# Altium integrated library Linear Technology PMIC-Switching Reg LTC1174-LTC3901.IntLib: 2647 symbols (part 222 of 310)
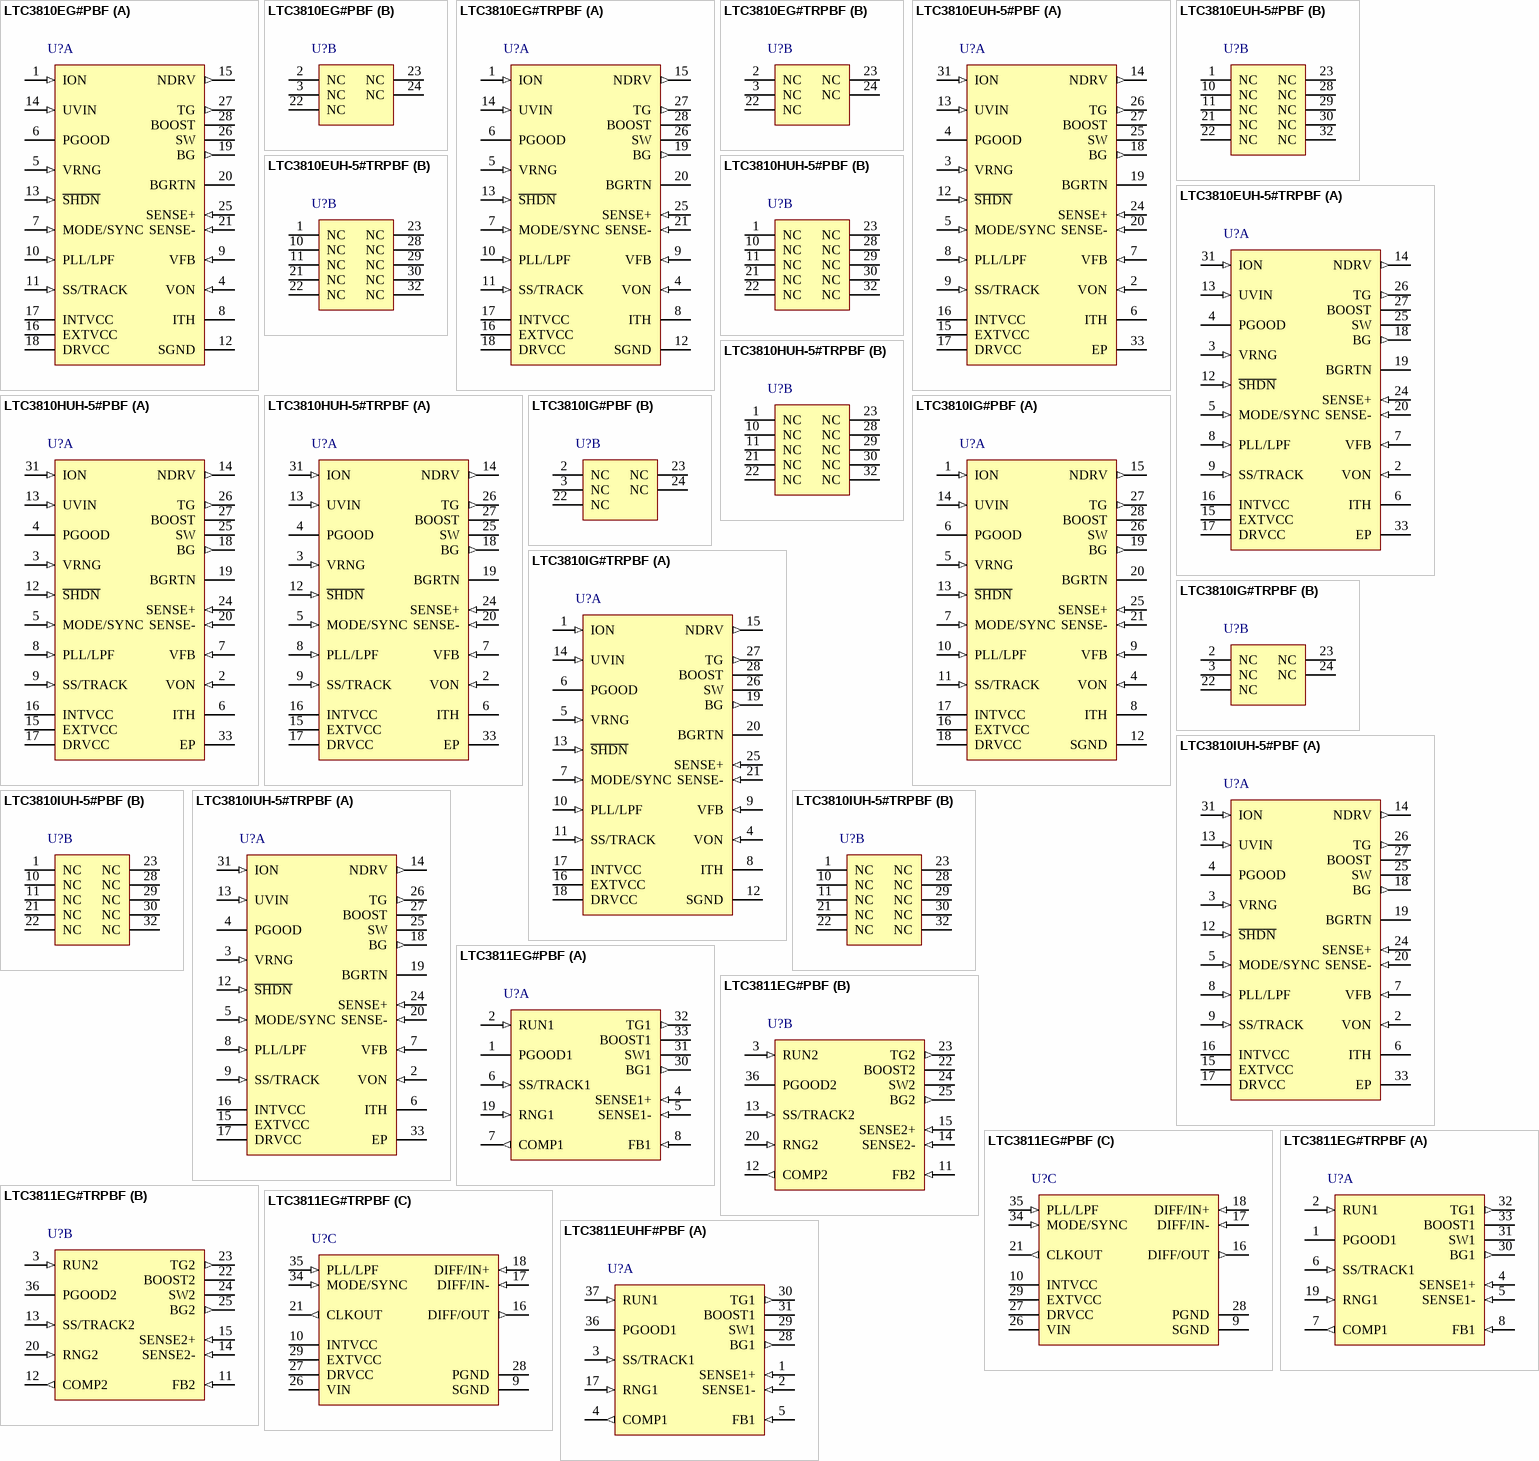
[diagram p245: symbols LTC3810EG#PBF to LTC3811EUHF#PBF]

## LTC3810EG#TRPBF
designator U?
Current Mode Synchronous Switching Regulator Controller, 28-pin SOP (G-28), -40 to 125 degC, Pb-Free, Tape and Reel; Manufacturer: Linear Technology; PartNumber: LTC3810EG#TRPBF; Number of Outputs: 1; PackageReference: G-28; PackageDescription: 28-Pin Plastic SSOP, Body 10.2 x 5.3 mm, Pitch 0.65 mm; Supplier 1: Digi-Key; Supplier Part Number 1: LTC3810EG#TRPBF-ND; RoHS: TRUE
footprint LT-G-28_N (SOP, 28-Leads, Body 10.2x5.3mm, Pitch 0.65mm, IPC Medium Density)
footprint LT-G-28_L (SOP, 28-Leads, Body 10.2x5.3mm, Pitch 0.65mm, IPC High Density)
footprint LT-G-28_M (SOP, 28-Leads, Body 10.2x5.3mm, Pitch 0.65mm, IPC Low Density)
part A pins: 1 ION (in) "On-Time Current Input. Tie a resistor from VIN to this pin to set the one-shot timer current and thereby set the switching frequency.", 4 VON (in) "On-Time Voltage Input. Voltage trip point for the on-time comparator. Tying this pin to the output voltage or an external resistive divider from the output makes the on-time proportional to VOUT. The comparator defaults to 0.(See Datasheet)", 5 VRNG (in) "Sense Voltage Limit Set. The voltage at this pin sets the nominal sense voltage at maximum output current and can be set from 0.5V to 2V by a resistive divider from INTVCC. The nominal sense voltage defaults to 95mV when (See Datasheet)", 6 PGOOD (oc) "Power Good Output. Open-drain logic output that is pulled to ground when the output voltage is not between +/-10% of the regulation point. The output voltage must be out of regulation for at least 120us before the power good (See Datasheet)", 7 MODE/SYNC (in) "Pulse Skip Mode Enable/Sync Pin. This multifunction pin provides pulse skip mode enable/ disable control and an external clock input to the phase detector. Pulling this pin below 0.8V or to an external logic-level (See Datasheet)", 8 ITH "Error Amplifier Compensation Point and Current Control Threshold. The current comparator threshold increases with control voltage. The voltage ranges from 0V to 2.6V with 1.2V corresponding to zero sense voltage (zero (See Datasheet)", 9 VFB (in) "Feedback Input. Connect VFB through a resistor divider network to VOUT to set the output voltage.", 10 PLL/LPF (in) "The phase-locked loop’s lowpass filter is tied to this pin. The voltage at this pin defaults to 1.2V when the IC is not synchronized with an external clock at the MODE/SYNC pin.", 11 SS/TRACK (in) "Soft-Start/Tracking Input. For softstart, a capacitor to ground at this pin sets the ramp rate of the output voltage (approximately 0.6s/uF). For coincident or ratiometric tracking, connect this pin to a resistive divider (See Datasheet)", 12 SGND (power) "Signal Ground. All small-signal components should connect to this ground and eventually connect to PGND at one point.", 13 ~{SHDN} (in) "Shutdown Pin. Pulling this pin below 1.5V will shut down the LTC3810, turn off both of the external MOSFET switches and reduce the quiescent supply current to 240uA.", 14 UVIN (in) "UVLO Input. This pin is input to the internal UVLO and is compared to an internal 0.8V reference. An external resistor divider is connected to this pin and the input supply to program the undervoltage lockout voltage. When (See Datasheet)", 15 NDRV (out) "Drive Output for External Pass Device of the Linear Regulator for INTVCC. Connect to the gate of an external NMOS pass device and a pull-up resistor to the input voltage VIN.", 16 EXTVCC (power) "External Driver Supply Voltage. When this voltage exceeds 6.7V, an internal switch connects this pin to INTVCC through an LDO and turns off the external MOSFET connected to NDRV, so that controller and gate drive are drawn (See Datasheet)", 17 INTVCC (power) "Main Supply Pin. All internal circuits except the output drivers are powered from this pin. INTVCC should be bypassed to ground (Pin 10) with at least a 0.1uF capacitor in close proximity to the LTC3810.", 18 DRVCC (power) "Driver Supply Pin. DRVCC supplies power to the BG output driver. This pin is normally connected to INTVCC. DRVCC should be bypassed to BGRTN (Pin 20) with a low ESR (X5R or better) 1uF capacitor in close proximity to the (See Datasheet)", 19 BG (out) "Bottom Gate Drive. The BG pin drives the gate of the bottom N-channel synchronous switch MOSFET. This pin swings from BGRTN to DRVCC.", 20 BGRTN "Bottom Gate Return. This pin connects to the source of the pull-down MOSFET in the BG driver and is normally connected to ground. Connecting a negative supply to this pin allows the synchronous MOSFET ’s gate to be pulle(See Datasheet)", 21 SENSE- (in) "Current Sense Comparator Input. The (+) input to the current comparator is normally connected to SW unless using a sense resistor. The (-) input is used to accurately kelvin sense the bottom side of the sense resistor or (See Datasheet)", 25 SENSE+ (in) "Current Sense Comparator Input. The (+) input to the current comparator is normally connected to SW unless using a sense resistor. The (-) input is used to accurately kelvin sense the bottom side of the sense resistor or (See Datasheet)", 26 SW "Switch Node Connection to Inductor and Bootstrap Capacitor. Voltage swing at this pin is from a Schottky diode (external) voltage drop below ground to VIN.", 27 TG (out) "Top Gate Drive. The TG pin drives the gate of the top N-channel synchronous switch MOSFET. The TG driver draws power from the BOOST pin and returns to the SW pin, providing true floating drive to the top MOSFET.", 28 BOOST "Top Gate Driver Supply. The BOOST pin supplies power to the floating TG driver. BOOST should be bypassed to SW with a low ESR (X5R or better) 0.1uF capacitor. An additional fast recovery Schottky diode from DRVCC to the (See Datasheet)"
part B pins: 2 NC, 3 NC, 22 NC, 23 NC, 24 NC

## LTC3810EUH-5#PBF
designator U?
Current Mode Synchronous Switching Regulator Controller, 32-pin QFN (UH-32), -40 to 125 degC, Pb-Free; Manufacturer: Linear Technology; PartNumber: LTC3810EUH-5#PBF; Number of Outputs: 1; PackageReference: UH-32; PackageDescription: 32-Pin Plastic QFN, Body 5 x 5 mm, Pitch 0.5 mm; Supplier 1: Digi-Key; Supplier Part Number 1: LTC3810EUH-5#PBF-ND; RoHS: TRUE; Code_JEDEC: MO-220
footprint LT-UH-32_N (QFN, 32-Leads, Body 5.1x5.1mm, Pitch 0.5mm, Thermal Pad 3.45X3.45mm, IPC Medium Density)
footprint LT-UH-32_L (QFN, 32-Leads, Body 5.1x5.1mm, Pitch 0.5mm, Thermal Pad 3.45X3.45mm, IPC High Density)
footprint LT-UH-32_M (QFN, 32-Leads, Body 5.1x5.1mm, Pitch 0.5mm, Thermal Pad 3.45X3.45mm, IPC Low Density)
part A pins: 2 VON (in) "On-Time Voltage Input. Voltage trip point for the on-time comparator. Tying this pin to the output voltage or to an external resistive divider from the output makes the on-time proportional to VOUT. The comparator defaults (See Datasheet)", 3 VRNG (in) "Sense Voltage Limit Set. The voltage at this pin sets the nominal sense voltage at maximum output current and can be set from 0.5V to 2V by a resistive divider from INTVCC. The nominal sense voltage defaults to 95mV when (See Datasheet)", 4 PGOOD (oc) "Power Good Output. Open-drain logic output that is pulled to ground when the output voltage is not between +/-10% of the regulation point. The output voltage must be out of regulation for at least 120us before the power good (See Datasheet)", 5 MODE/SYNC (in) "Pulse Skip Mode Enable/Sync Pin. This multifunction pin provides pulse skip mode enable/ disable control and an external clock input to the phase detector. Pulling this pin below 0.8V or to an external logic-level (See Datasheet)", 6 ITH "Error Amplifier Compensation Point and Current Control Threshold. The current comparator threshold increases with this control voltage. The voltage ranges from 0V to 2.6V with 1.2V corresponding to zero sense voltage (zero (See Datasheet)", 7 VFB (in) "Feedback Input. Connect VFB through a resistor divider network to VOUT to set the output voltage.", 8 PLL/LPF (in) "The phase-locked loop’s lowpass filter is tied to this pin. The voltage at this pin defaults to 1.2V when the IC is not synchronized with an external clock at the MODE/SYNC pin.", 9 SS/TRACK (in) "Soft-Start/Tracking Input. For soft-start, a capacitor to ground at this pin sets the ramp rate of the output voltage (approximately 0.6s/uF). For coincident or ratiometric tracking, connect this pin to a resistive divider (See Datasheet)", 12 ~{SHDN} (in) "Shutdown Pin. Pulling this pin below 1.5V will shut down the LTC3810-5, turn off both of the external MOSFET switches and reduce the quiescent supply current to 240uA.", 13 UVIN (in) "UVLO Input. This pin is input to the internal UVLO and is compared to an internal 0.8V reference. An external resistor divider is connected to this pin and the input supply to program the undervoltage lockout voltage. When (See Datasheet)", 14 NDRV (out) "Drive Output for External Pass Device of the Linear Regulator for INTVCC. Connect to the gate of an external NMOS pass device and a pull-up resistor to the input voltage VIN.", 15 EXTVCC (power) "External Driver Supply Voltage. When this voltage exceeds 4.7V, an internal switch connects this pin to INTVCC through an LDO and turns off the exter nal MOSFET connected to NDRV, so that controller and gate drive are drawn (See Datasheet)", 16 INTVCC (power) "Main Supply Pin. All internal circuits except the output drivers are powered from this pin. INTVCC should be bypassed to ground (Pin 10) with at least a 0.1uF capacitor in close proximity to the LTC3810-5.", 17 DRVCC (power) "Driver Supply Pin. DRVCC supplies power to the BG output driver. This pin is normally connected to INTVCC. DRVCC should be bypassed to BGRTN (Pin 20) with a low ESR (X5R or better) 1uF-10uF capacitor in close proximity to (See Datasheet)", 18 BG (out) "Bottom Gate Drive. The BG pin drives the gate of the bottom N-channel synchronous switch MOSFET. This pin swings from BGRTN to DRVCC", 19 BGRTN "Bottom Gate Return. This pin connects to the source of the pulldown MOSFET in the BG driver and is normally connected to ground. Connecting a negative supply to this pin allows the synchronous MOSFET’s gate to be pulle(See Datasheet)", 20 SENSE- (in) "Current Sense Comparator Input. The (+) input to the current comparator is normally connected to SW unless using a sense resistor. The (-) input is used to accurately kelvin sense the bottom side of the sense resistor or (See Datasheet)", 24 SENSE+ (in) "Current Sense Comparator Input. The (+) input to the current comparator is normally connected to SW unless using a sense resistor. The (-) input is used to accurately kelvin sense the bottom side of the sense resistor or (See Datasheet)", 25 SW "Switch Node Connection to Inductor and Bootstrap Capacitor. The voltage swing at this pin is -0.7V (a Schottky diode (external) voltage drop) to VIN.", 26 TG (out) "Top Gate Drive. The TG pin drives the gate of the top N-channel synchronous switch MOSFET. The TG driver draws power from the BOOST pin and returns to the SW pin, providing true floating drive to the top MOSFET.", 27 BOOST "Top Gate Driver Supply. The BOOST pin supplies power to the floating TG driver. BOOST should be bypassed to SW with a low ESR (X5R or better) 0.1uF capacitor. An additional fast recovery Schottky diode from DRVCC to the (See Datasheet)", 31 ION (in) "On-Time Current Input. Tie a resistor from VIN to this pin to set the one-shot timer current and thereby set the switching frequency.", 33 EP (power) "Signal Ground. All smallsignal components should connect to this ground and eventually connect to PGND at one point."
part B pins: 1 NC, 10 NC, 11 NC, 21 NC, 22 NC, 23 NC, 28 NC, 29 NC, 30 NC, 32 NC

## LTC3810EUH-5#TRPBF
designator U?
Current Mode Synchronous Switching Regulator Controller, 32-pin QFN (UH-32), -40 to 125 degC, Pb-Free, Tape and Reel; Manufacturer: Linear Technology; PartNumber: LTC3810EUH-5#TRPBF; Number of Outputs: 1; PackageReference: UH-32; PackageDescription: 32-Pin Plastic QFN, Body 5 x 5 mm, Pitch 0.5 mm; Supplier 1: Digi-Key; Supplier Part Number 1: LTC3810EUH-5#TRPBF-ND; RoHS: TRUE; Code_JEDEC: MO-220
footprint LT-UH-32_N (QFN, 32-Leads, Body 5.1x5.1mm, Pitch 0.5mm, Thermal Pad 3.45X3.45mm, IPC Medium Density)
footprint LT-UH-32_L (QFN, 32-Leads, Body 5.1x5.1mm, Pitch 0.5mm, Thermal Pad 3.45X3.45mm, IPC High Density)
footprint LT-UH-32_M (QFN, 32-Leads, Body 5.1x5.1mm, Pitch 0.5mm, Thermal Pad 3.45X3.45mm, IPC Low Density)
part A pins: 2 VON (in) "On-Time Voltage Input. Voltage trip point for the on-time comparator. Tying this pin to the output voltage or to an external resistive divider from the output makes the on-time proportional to VOUT. The comparator defaults (See Datasheet)", 3 VRNG (in) "Sense Voltage Limit Set. The voltage at this pin sets the nominal sense voltage at maximum output current and can be set from 0.5V to 2V by a resistive divider from INTVCC. The nominal sense voltage defaults to 95mV when (See Datasheet)", 4 PGOOD (oc) "Power Good Output. Open-drain logic output that is pulled to ground when the output voltage is not between +/-10% of the regulation point. The output voltage must be out of regulation for at least 120us before the power good (See Datasheet)", 5 MODE/SYNC (in) "Pulse Skip Mode Enable/Sync Pin. This multifunction pin provides pulse skip mode enable/ disable control and an external clock input to the phase detector. Pulling this pin below 0.8V or to an external logic-level (See Datasheet)", 6 ITH "Error Amplifier Compensation Point and Current Control Threshold. The current comparator threshold increases with this control voltage. The voltage ranges from 0V to 2.6V with 1.2V corresponding to zero sense voltage (zero (See Datasheet)", 7 VFB (in) "Feedback Input. Connect VFB through a resistor divider network to VOUT to set the output voltage.", 8 PLL/LPF (in) "The phase-locked loop’s lowpass filter is tied to this pin. The voltage at this pin defaults to 1.2V when the IC is not synchronized with an external clock at the MODE/SYNC pin.", 9 SS/TRACK (in) "Soft-Start/Tracking Input. For soft-start, a capacitor to ground at this pin sets the ramp rate of the output voltage (approximately 0.6s/uF). For coincident or ratiometric tracking, connect this pin to a resistive divider (See Datasheet)", 12 ~{SHDN} (in) "Shutdown Pin. Pulling this pin below 1.5V will shut down the LTC3810-5, turn off both of the external MOSFET switches and reduce the quiescent supply current to 240uA.", 13 UVIN (in) "UVLO Input. This pin is input to the internal UVLO and is compared to an internal 0.8V reference. An external resistor divider is connected to this pin and the input supply to program the undervoltage lockout voltage. When (See Datasheet)", 14 NDRV (out) "Drive Output for External Pass Device of the Linear Regulator for INTVCC. Connect to the gate of an external NMOS pass device and a pull-up resistor to the input voltage VIN.", 15 EXTVCC (power) "External Driver Supply Voltage. When this voltage exceeds 4.7V, an internal switch connects this pin to INTVCC through an LDO and turns off the exter nal MOSFET connected to NDRV, so that controller and gate drive are drawn (See Datasheet)", 16 INTVCC (power) "Main Supply Pin. All internal circuits except the output drivers are powered from this pin. INTVCC should be bypassed to ground (Pin 10) with at least a 0.1uF capacitor in close proximity to the LTC3810-5.", 17 DRVCC (power) "Driver Supply Pin. DRVCC supplies power to the BG output driver. This pin is normally connected to INTVCC. DRVCC should be bypassed to BGRTN (Pin 20) with a low ESR (X5R or better) 1uF-10uF capacitor in close proximity to (See Datasheet)", 18 BG (out) "Bottom Gate Drive. The BG pin drives the gate of the bottom N-channel synchronous switch MOSFET. This pin swings from BGRTN to DRVCC", 19 BGRTN "Bottom Gate Return. This pin connects to the source of the pulldown MOSFET in the BG driver and is normally connected to ground. Connecting a negative supply to this pin allows the synchronous MOSFET’s gate to be pulle(See Datasheet)", 20 SENSE- (in) "Current Sense Comparator Input. The (+) input to the current comparator is normally connected to SW unless using a sense resistor. The (-) input is used to accurately kelvin sense the bottom side of the sense resistor or (See Datasheet)", 24 SENSE+ (in) "Current Sense Comparator Input. The (+) input to the current comparator is normally connected to SW unless using a sense resistor. The (-) input is used to accurately kelvin sense the bottom side of the sense resistor or (See Datasheet)", 25 SW "Switch Node Connection to Inductor and Bootstrap Capacitor. The voltage swing at this pin is -0.7V (a Schottky diode (external) voltage drop) to VIN.", 26 TG (out) "Top Gate Drive. The TG pin drives the gate of the top N-channel synchronous switch MOSFET. The TG driver draws power from the BOOST pin and returns to the SW pin, providing true floating drive to the top MOSFET.", 27 BOOST "Top Gate Driver Supply. The BOOST pin supplies power to the floating TG driver. BOOST should be bypassed to SW with a low ESR (X5R or better) 0.1uF capacitor. An additional fast recovery Schottky diode from DRVCC to the (See Datasheet)", 31 ION (in) "On-Time Current Input. Tie a resistor from VIN to this pin to set the one-shot timer current and thereby set the switching frequency.", 33 EP (power) "Signal Ground. All smallsignal components should connect to this ground and eventually connect to PGND at one point."
part B pins: 1 NC, 10 NC, 11 NC, 21 NC, 22 NC, 23 NC, 28 NC, 29 NC, 30 NC, 32 NC

## LTC3810HUH-5#PBF
designator U?
Current Mode Synchronous Switching Regulator Controller, 32-pin QFN (UH-32), -40 to 150 degC, Pb-Free; Manufacturer: Linear Technology; PartNumber: LTC3810HUH-5#PBF; Number of Outputs: 1; PackageReference: UH-32; PackageDescription: 32-Pin Plastic QFN, Body 5 x 5 mm, Pitch 0.5 mm; Supplier 1: Digi-Key; Supplier Part Number 1: LTC3810HUH-5#PBF-ND; RoHS: TRUE; Code_JEDEC: MO-220
footprint LT-UH-32_N (QFN, 32-Leads, Body 5.1x5.1mm, Pitch 0.5mm, Thermal Pad 3.45X3.45mm, IPC Medium Density)
footprint LT-UH-32_L (QFN, 32-Leads, Body 5.1x5.1mm, Pitch 0.5mm, Thermal Pad 3.45X3.45mm, IPC High Density)
footprint LT-UH-32_M (QFN, 32-Leads, Body 5.1x5.1mm, Pitch 0.5mm, Thermal Pad 3.45X3.45mm, IPC Low Density)
part A pins: 2 VON (in) "On-Time Voltage Input. Voltage trip point for the on-time comparator. Tying this pin to the output voltage or to an external resistive divider from the output makes the on-time proportional to VOUT. The comparator defaults (See Datasheet)", 3 VRNG (in) "Sense Voltage Limit Set. The voltage at this pin sets the nominal sense voltage at maximum output current and can be set from 0.5V to 2V by a resistive divider from INTVCC. The nominal sense voltage defaults to 95mV when (See Datasheet)", 4 PGOOD (oc) "Power Good Output. Open-drain logic output that is pulled to ground when the output voltage is not between +/-10% of the regulation point. The output voltage must be out of regulation for at least 120us before the power good (See Datasheet)", 5 MODE/SYNC (in) "Pulse Skip Mode Enable/Sync Pin. This multifunction pin provides pulse skip mode enable/ disable control and an external clock input to the phase detector. Pulling this pin below 0.8V or to an external logic-level (See Datasheet)", 6 ITH "Error Amplifier Compensation Point and Current Control Threshold. The current comparator threshold increases with this control voltage. The voltage ranges from 0V to 2.6V with 1.2V corresponding to zero sense voltage (zero (See Datasheet)", 7 VFB (in) "Feedback Input. Connect VFB through a resistor divider network to VOUT to set the output voltage.", 8 PLL/LPF (in) "The phase-locked loop’s lowpass filter is tied to this pin. The voltage at this pin defaults to 1.2V when the IC is not synchronized with an external clock at the MODE/SYNC pin.", 9 SS/TRACK (in) "Soft-Start/Tracking Input. For soft-start, a capacitor to ground at this pin sets the ramp rate of the output voltage (approximately 0.6s/uF). For coincident or ratiometric tracking, connect this pin to a resistive divider (See Datasheet)", 12 ~{SHDN} (in) "Shutdown Pin. Pulling this pin below 1.5V will shut down the LTC3810-5, turn off both of the external MOSFET switches and reduce the quiescent supply current to 240uA.", 13 UVIN (in) "UVLO Input. This pin is input to the internal UVLO and is compared to an internal 0.8V reference. An external resistor divider is connected to this pin and the input supply to program the undervoltage lockout voltage. When (See Datasheet)", 14 NDRV (out) "Drive Output for External Pass Device of the Linear Regulator for INTVCC. Connect to the gate of an external NMOS pass device and a pull-up resistor to the input voltage VIN.", 15 EXTVCC (power) "External Driver Supply Voltage. When this voltage exceeds 4.7V, an internal switch connects this pin to INTVCC through an LDO and turns off the exter nal MOSFET connected to NDRV, so that controller and gate drive are drawn (See Datasheet)", 16 INTVCC (power) "Main Supply Pin. All internal circuits except the output drivers are powered from this pin. INTVCC should be bypassed to ground (Pin 10) with at least a 0.1uF capacitor in close proximity to the LTC3810-5.", 17 DRVCC (power) "Driver Supply Pin. DRVCC supplies power to the BG output driver. This pin is normally connected to INTVCC. DRVCC should be bypassed to BGRTN (Pin 20) with a low ESR (X5R or better) 1uF-10uF capacitor in close proximity to (See Datasheet)", 18 BG (out) "Bottom Gate Drive. The BG pin drives the gate of the bottom N-channel synchronous switch MOSFET. This pin swings from BGRTN to DRVCC", 19 BGRTN "Bottom Gate Return. This pin connects to the source of the pulldown MOSFET in the BG driver and is normally connected to ground. Connecting a negative supply to this pin allows the synchronous MOSFET’s gate to be pulle(See Datasheet)", 20 SENSE- (in) "Current Sense Comparator Input. The (+) input to the current comparator is normally connected to SW unless using a sense resistor. The (-) input is used to accurately kelvin sense the bottom side of the sense resistor or (See Datasheet)", 24 SENSE+ (in) "Current Sense Comparator Input. The (+) input to the current comparator is normally connected to SW unless using a sense resistor. The (-) input is used to accurately kelvin sense the bottom side of the sense resistor or (See Datasheet)", 25 SW "Switch Node Connection to Inductor and Bootstrap Capacitor. The voltage swing at this pin is -0.7V (a Schottky diode (external) voltage drop) to VIN.", 26 TG (out) "Top Gate Drive. The TG pin drives the gate of the top N-channel synchronous switch MOSFET. The TG driver draws power from the BOOST pin and returns to the SW pin, providing true floating drive to the top MOSFET.", 27 BOOST "Top Gate Driver Supply. The BOOST pin supplies power to the floating TG driver. BOOST should be bypassed to SW with a low ESR (X5R or better) 0.1uF capacitor. An additional fast recovery Schottky diode from DRVCC to the (See Datasheet)", 31 ION (in) "On-Time Current Input. Tie a resistor from VIN to this pin to set the one-shot timer current and thereby set the switching frequency.", 33 EP (power) "Signal Ground. All smallsignal components should connect to this ground and eventually connect to PGND at one point."
part B pins: 1 NC, 10 NC, 11 NC, 21 NC, 22 NC, 23 NC, 28 NC, 29 NC, 30 NC, 32 NC

## LTC3810HUH-5#TRPBF
designator U?
Current Mode Synchronous Switching Regulator Controller, 32-pin QFN (UH-32), -40 to 150 degC, Pb-Free, Tape and Reel; Manufacturer: Linear Technology; PartNumber: LTC3810HUH-5#TRPBF; Number of Outputs: 1; PackageReference: UH-32; PackageDescription: 32-Pin Plastic QFN, Body 5 x 5 mm, Pitch 0.5 mm; Supplier 1: Digi-Key; Supplier Part Number 1: LTC3810HUH-5#TRPBF-ND; RoHS: TRUE; Code_JEDEC: MO-220
footprint LT-UH-32_N (QFN, 32-Leads, Body 5.1x5.1mm, Pitch 0.5mm, Thermal Pad 3.45X3.45mm, IPC Medium Density)
footprint LT-UH-32_L (QFN, 32-Leads, Body 5.1x5.1mm, Pitch 0.5mm, Thermal Pad 3.45X3.45mm, IPC High Density)
footprint LT-UH-32_M (QFN, 32-Leads, Body 5.1x5.1mm, Pitch 0.5mm, Thermal Pad 3.45X3.45mm, IPC Low Density)
part A pins: 2 VON (in) "On-Time Voltage Input. Voltage trip point for the on-time comparator. Tying this pin to the output voltage or to an external resistive divider from the output makes the on-time proportional to VOUT. The comparator defaults (See Datasheet)", 3 VRNG (in) "Sense Voltage Limit Set. The voltage at this pin sets the nominal sense voltage at maximum output current and can be set from 0.5V to 2V by a resistive divider from INTVCC. The nominal sense voltage defaults to 95mV when (See Datasheet)", 4 PGOOD (oc) "Power Good Output. Open-drain logic output that is pulled to ground when the output voltage is not between +/-10% of the regulation point. The output voltage must be out of regulation for at least 120us before the power good (See Datasheet)", 5 MODE/SYNC (in) "Pulse Skip Mode Enable/Sync Pin. This multifunction pin provides pulse skip mode enable/ disable control and an external clock input to the phase detector. Pulling this pin below 0.8V or to an external logic-level (See Datasheet)", 6 ITH "Error Amplifier Compensation Point and Current Control Threshold. The current comparator threshold increases with this control voltage. The voltage ranges from 0V to 2.6V with 1.2V corresponding to zero sense voltage (zero (See Datasheet)", 7 VFB (in) "Feedback Input. Connect VFB through a resistor divider network to VOUT to set the output voltage.", 8 PLL/LPF (in) "The phase-locked loop’s lowpass filter is tied to this pin. The voltage at this pin defaults to 1.2V when the IC is not synchronized with an external clock at the MODE/SYNC pin.", 9 SS/TRACK (in) "Soft-Start/Tracking Input. For soft-start, a capacitor to ground at this pin sets the ramp rate of the output voltage (approximately 0.6s/uF). For coincident or ratiometric tracking, connect this pin to a resistive divider (See Datasheet)", 12 ~{SHDN} (in) "Shutdown Pin. Pulling this pin below 1.5V will shut down the LTC3810-5, turn off both of the external MOSFET switches and reduce the quiescent supply current to 240uA.", 13 UVIN (in) "UVLO Input. This pin is input to the internal UVLO and is compared to an internal 0.8V reference. An external resistor divider is connected to this pin and the input supply to program the undervoltage lockout voltage. When (See Datasheet)", 14 NDRV (out) "Drive Output for External Pass Device of the Linear Regulator for INTVCC. Connect to the gate of an external NMOS pass device and a pull-up resistor to the input voltage VIN.", 15 EXTVCC (power) "External Driver Supply Voltage. When this voltage exceeds 4.7V, an internal switch connects this pin to INTVCC through an LDO and turns off the exter nal MOSFET connected to NDRV, so that controller and gate drive are drawn (See Datasheet)", 16 INTVCC (power) "Main Supply Pin. All internal circuits except the output drivers are powered from this pin. INTVCC should be bypassed to ground (Pin 10) with at least a 0.1uF capacitor in close proximity to the LTC3810-5.", 17 DRVCC (power) "Driver Supply Pin. DRVCC supplies power to the BG output driver. This pin is normally connected to INTVCC. DRVCC should be bypassed to BGRTN (Pin 20) with a low ESR (X5R or better) 1uF-10uF capacitor in close proximity to (See Datasheet)", 18 BG (out) "Bottom Gate Drive. The BG pin drives the gate of the bottom N-channel synchronous switch MOSFET. This pin swings from BGRTN to DRVCC", 19 BGRTN "Bottom Gate Return. This pin connects to the source of the pulldown MOSFET in the BG driver and is normally connected to ground. Connecting a negative supply to this pin allows the synchronous MOSFET’s gate to be pulle(See Datasheet)", 20 SENSE- (in) "Current Sense Comparator Input. The (+) input to the current comparator is normally connected to SW unless using a sense resistor. The (-) input is used to accurately kelvin sense the bottom side of the sense resistor or (See Datasheet)", 24 SENSE+ (in) "Current Sense Comparator Input. The (+) input to the current comparator is normally connected to SW unless using a sense resistor. The (-) input is used to accurately kelvin sense the bottom side of the sense resistor or (See Datasheet)", 25 SW "Switch Node Connection to Inductor and Bootstrap Capacitor. The voltage swing at this pin is -0.7V (a Schottky diode (external) voltage drop) to VIN.", 26 TG (out) "Top Gate Drive. The TG pin drives the gate of the top N-channel synchronous switch MOSFET. The TG driver draws power from the BOOST pin and returns to the SW pin, providing true floating drive to the top MOSFET.", 27 BOOST "Top Gate Driver Supply. The BOOST pin supplies power to the floating TG driver. BOOST should be bypassed to SW with a low ESR (X5R or better) 0.1uF capacitor. An additional fast recovery Schottky diode from DRVCC to the (See Datasheet)", 31 ION (in) "On-Time Current Input. Tie a resistor from VIN to this pin to set the one-shot timer current and thereby set the switching frequency.", 33 EP (power) "Signal Ground. All smallsignal components should connect to this ground and eventually connect to PGND at one point."
part B pins: 1 NC, 10 NC, 11 NC, 21 NC, 22 NC, 23 NC, 28 NC, 29 NC, 30 NC, 32 NC

## LTC3810IG#PBF
designator U?
Current Mode Synchronous Switching Regulator Controller, 28-pin SOP (G-28), -40 to 125 degC, Pb-Free; Manufacturer: Linear Technology; PartNumber: LTC3810IG#PBF; Number of Outputs: 1; PackageReference: G-28; PackageDescription: 28-Pin Plastic SSOP, Body 10.2 x 5.3 mm, Pitch 0.65 mm; Supplier 1: Digi-Key; Supplier Part Number 1: LTC3810IG#PBF-ND; RoHS: TRUE
footprint LT-G-28_N (SOP, 28-Leads, Body 10.2x5.3mm, Pitch 0.65mm, IPC Medium Density)
footprint LT-G-28_L (SOP, 28-Leads, Body 10.2x5.3mm, Pitch 0.65mm, IPC High Density)
footprint LT-G-28_M (SOP, 28-Leads, Body 10.2x5.3mm, Pitch 0.65mm, IPC Low Density)
part A pins: 1 ION (in) "On-Time Current Input. Tie a resistor from VIN to this pin to set the one-shot timer current and thereby set the switching frequency.", 4 VON (in) "On-Time Voltage Input. Voltage trip point for the on-time comparator. Tying this pin to the output voltage or an external resistive divider from the output makes the on-time proportional to VOUT. The comparator defaults to 0.(See Datasheet)", 5 VRNG (in) "Sense Voltage Limit Set. The voltage at this pin sets the nominal sense voltage at maximum output current and can be set from 0.5V to 2V by a resistive divider from INTVCC. The nominal sense voltage defaults to 95mV when (See Datasheet)", 6 PGOOD (oc) "Power Good Output. Open-drain logic output that is pulled to ground when the output voltage is not between +/-10% of the regulation point. The output voltage must be out of regulation for at least 120us before the power good (See Datasheet)", 7 MODE/SYNC (in) "Pulse Skip Mode Enable/Sync Pin. This multifunction pin provides pulse skip mode enable/ disable control and an external clock input to the phase detector. Pulling this pin below 0.8V or to an external logic-level (See Datasheet)", 8 ITH "Error Amplifier Compensation Point and Current Control Threshold. The current comparator threshold increases with control voltage. The voltage ranges from 0V to 2.6V with 1.2V corresponding to zero sense voltage (zero (See Datasheet)", 9 VFB (in) "Feedback Input. Connect VFB through a resistor divider network to VOUT to set the output voltage.", 10 PLL/LPF (in) "The phase-locked loop’s lowpass filter is tied to this pin. The voltage at this pin defaults to 1.2V when the IC is not synchronized with an external clock at the MODE/SYNC pin.", 11 SS/TRACK (in) "Soft-Start/Tracking Input. For softstart, a capacitor to ground at this pin sets the ramp rate of the output voltage (approximately 0.6s/uF). For coincident or ratiometric tracking, connect this pin to a resistive divider (See Datasheet)", 12 SGND (power) "Signal Ground. All small-signal components should connect to this ground and eventually connect to PGND at one point.", 13 ~{SHDN} (in) "Shutdown Pin. Pulling this pin below 1.5V will shut down the LTC3810, turn off both of the external MOSFET switches and reduce the quiescent supply current to 240uA.", 14 UVIN (in) "UVLO Input. This pin is input to the internal UVLO and is compared to an internal 0.8V reference. An external resistor divider is connected to this pin and the input supply to program the undervoltage lockout voltage. When (See Datasheet)", 15 NDRV (out) "Drive Output for External Pass Device of the Linear Regulator for INTVCC. Connect to the gate of an external NMOS pass device and a pull-up resistor to the input voltage VIN.", 16 EXTVCC (power) "External Driver Supply Voltage. When this voltage exceeds 6.7V, an internal switch connects this pin to INTVCC through an LDO and turns off the external MOSFET connected to NDRV, so that controller and gate drive are drawn (See Datasheet)", 17 INTVCC (power) "Main Supply Pin. All internal circuits except the output drivers are powered from this pin. INTVCC should be bypassed to ground (Pin 10) with at least a 0.1uF capacitor in close proximity to the LTC3810.", 18 DRVCC (power) "Driver Supply Pin. DRVCC supplies power to the BG output driver. This pin is normally connected to INTVCC. DRVCC should be bypassed to BGRTN (Pin 20) with a low ESR (X5R or better) 1uF capacitor in close proximity to the (See Datasheet)", 19 BG (out) "Bottom Gate Drive. The BG pin drives the gate of the bottom N-channel synchronous switch MOSFET. This pin swings from BGRTN to DRVCC.", 20 BGRTN "Bottom Gate Return. This pin connects to the source of the pull-down MOSFET in the BG driver and is normally connected to ground. Connecting a negative supply to this pin allows the synchronous MOSFET ’s gate to be pulle(See Datasheet)", 21 SENSE- (in) "Current Sense Comparator Input. The (+) input to the current comparator is normally connected to SW unless using a sense resistor. The (-) input is used to accurately kelvin sense the bottom side of the sense resistor or (See Datasheet)", 25 SENSE+ (in) "Current Sense Comparator Input. The (+) input to the current comparator is normally connected to SW unless using a sense resistor. The (-) input is used to accurately kelvin sense the bottom side of the sense resistor or (See Datasheet)", 26 SW "Switch Node Connection to Inductor and Bootstrap Capacitor. Voltage swing at this pin is from a Schottky diode (external) voltage drop below ground to VIN.", 27 TG (out) "Top Gate Drive. The TG pin drives the gate of the top N-channel synchronous switch MOSFET. The TG driver draws power from the BOOST pin and returns to the SW pin, providing true floating drive to the top MOSFET.", 28 BOOST "Top Gate Driver Supply. The BOOST pin supplies power to the floating TG driver. BOOST should be bypassed to SW with a low ESR (X5R or better) 0.1uF capacitor. An additional fast recovery Schottky diode from DRVCC to the (See Datasheet)"
part B pins: 2 NC, 3 NC, 22 NC, 23 NC, 24 NC

## LTC3810IG#TRPBF
designator U?
Current Mode Synchronous Switching Regulator Controller, 28-pin SOP (G-28), -40 to 125 degC, Pb-Free, Tape and Reel; Manufacturer: Linear Technology; PartNumber: LTC3810IG#TRPBF; Number of Outputs: 1; PackageReference: G-28; PackageDescription: 28-Pin Plastic SSOP, Body 10.2 x 5.3 mm, Pitch 0.65 mm; Supplier 1: Digi-Key; Supplier Part Number 1: LTC3810IG#TRPBF-ND; RoHS: TRUE
footprint LT-G-28_N (SOP, 28-Leads, Body 10.2x5.3mm, Pitch 0.65mm, IPC Medium Density)
footprint LT-G-28_L (SOP, 28-Leads, Body 10.2x5.3mm, Pitch 0.65mm, IPC High Density)
footprint LT-G-28_M (SOP, 28-Leads, Body 10.2x5.3mm, Pitch 0.65mm, IPC Low Density)
part A pins: 1 ION (in) "On-Time Current Input. Tie a resistor from VIN to this pin to set the one-shot timer current and thereby set the switching frequency.", 4 VON (in) "On-Time Voltage Input. Voltage trip point for the on-time comparator. Tying this pin to the output voltage or an external resistive divider from the output makes the on-time proportional to VOUT. The comparator defaults to 0.(See Datasheet)", 5 VRNG (in) "Sense Voltage Limit Set. The voltage at this pin sets the nominal sense voltage at maximum output current and can be set from 0.5V to 2V by a resistive divider from INTVCC. The nominal sense voltage defaults to 95mV when (See Datasheet)", 6 PGOOD (oc) "Power Good Output. Open-drain logic output that is pulled to ground when the output voltage is not between +/-10% of the regulation point. The output voltage must be out of regulation for at least 120us before the power good (See Datasheet)", 7 MODE/SYNC (in) "Pulse Skip Mode Enable/Sync Pin. This multifunction pin provides pulse skip mode enable/ disable control and an external clock input to the phase detector. Pulling this pin below 0.8V or to an external logic-level (See Datasheet)", 8 ITH "Error Amplifier Compensation Point and Current Control Threshold. The current comparator threshold increases with control voltage. The voltage ranges from 0V to 2.6V with 1.2V corresponding to zero sense voltage (zero (See Datasheet)", 9 VFB (in) "Feedback Input. Connect VFB through a resistor divider network to VOUT to set the output voltage.", 10 PLL/LPF (in) "The phase-locked loop’s lowpass filter is tied to this pin. The voltage at this pin defaults to 1.2V when the IC is not synchronized with an external clock at the MODE/SYNC pin.", 11 SS/TRACK (in) "Soft-Start/Tracking Input. For softstart, a capacitor to ground at this pin sets the ramp rate of the output voltage (approximately 0.6s/uF). For coincident or ratiometric tracking, connect this pin to a resistive divider (See Datasheet)", 12 SGND (power) "Signal Ground. All small-signal components should connect to this ground and eventually connect to PGND at one point.", 13 ~{SHDN} (in) "Shutdown Pin. Pulling this pin below 1.5V will shut down the LTC3810, turn off both of the external MOSFET switches and reduce the quiescent supply current to 240uA.", 14 UVIN (in) "UVLO Input. This pin is input to the internal UVLO and is compared to an internal 0.8V reference. An external resistor divider is connected to this pin and the input supply to program the undervoltage lockout voltage. When (See Datasheet)", 15 NDRV (out) "Drive Output for External Pass Device of the Linear Regulator for INTVCC. Connect to the gate of an external NMOS pass device and a pull-up resistor to the input voltage VIN.", 16 EXTVCC (power) "External Driver Supply Voltage. When this voltage exceeds 6.7V, an internal switch connects this pin to INTVCC through an LDO and turns off the external MOSFET connected to NDRV, so that controller and gate drive are drawn (See Datasheet)", 17 INTVCC (power) "Main Supply Pin. All internal circuits except the output drivers are powered from this pin. INTVCC should be bypassed to ground (Pin 10) with at least a 0.1uF capacitor in close proximity to the LTC3810.", 18 DRVCC (power) "Driver Supply Pin. DRVCC supplies power to the BG output driver. This pin is normally connected to INTVCC. DRVCC should be bypassed to BGRTN (Pin 20) with a low ESR (X5R or better) 1uF capacitor in close proximity to the (See Datasheet)", 19 BG (out) "Bottom Gate Drive. The BG pin drives the gate of the bottom N-channel synchronous switch MOSFET. This pin swings from BGRTN to DRVCC.", 20 BGRTN "Bottom Gate Return. This pin connects to the source of the pull-down MOSFET in the BG driver and is normally connected to ground. Connecting a negative supply to this pin allows the synchronous MOSFET ’s gate to be pulle(See Datasheet)", 21 SENSE- (in) "Current Sense Comparator Input. The (+) input to the current comparator is normally connected to SW unless using a sense resistor. The (-) input is used to accurately kelvin sense the bottom side of the sense resistor or (See Datasheet)", 25 SENSE+ (in) "Current Sense Comparator Input. The (+) input to the current comparator is normally connected to SW unless using a sense resistor. The (-) input is used to accurately kelvin sense the bottom side of the sense resistor or (See Datasheet)", 26 SW "Switch Node Connection to Inductor and Bootstrap Capacitor. Voltage swing at this pin is from a Schottky diode (external) voltage drop below ground to VIN.", 27 TG (out) "Top Gate Drive. The TG pin drives the gate of the top N-channel synchronous switch MOSFET. The TG driver draws power from the BOOST pin and returns to the SW pin, providing true floating drive to the top MOSFET.", 28 BOOST "Top Gate Driver Supply. The BOOST pin supplies power to the floating TG driver. BOOST should be bypassed to SW with a low ESR (X5R or better) 0.1uF capacitor. An additional fast recovery Schottky diode from DRVCC to the (See Datasheet)"
part B pins: 2 NC, 3 NC, 22 NC, 23 NC, 24 NC

## LTC3810IUH-5#PBF
designator U?
Current Mode Synchronous Switching Regulator Controller, 32-pin QFN (UH-32), -40 to 125 degC, Pb-Free; Manufacturer: Linear Technology; PartNumber: LTC3810IUH-5#PBF; Number of Outputs: 1; PackageReference: UH-32; PackageDescription: 32-Pin Plastic QFN, Body 5 x 5 mm, Pitch 0.5 mm; Supplier 1: Digi-Key; Supplier Part Number 1: LTC3810IUH-5#PBF-ND; RoHS: TRUE; Code_JEDEC: MO-220
footprint LT-UH-32_N (QFN, 32-Leads, Body 5.1x5.1mm, Pitch 0.5mm, Thermal Pad 3.45X3.45mm, IPC Medium Density)
footprint LT-UH-32_L (QFN, 32-Leads, Body 5.1x5.1mm, Pitch 0.5mm, Thermal Pad 3.45X3.45mm, IPC High Density)
footprint LT-UH-32_M (QFN, 32-Leads, Body 5.1x5.1mm, Pitch 0.5mm, Thermal Pad 3.45X3.45mm, IPC Low Density)
part A pins: 2 VON (in) "On-Time Voltage Input. Voltage trip point for the on-time comparator. Tying this pin to the output voltage or to an external resistive divider from the output makes the on-time proportional to VOUT. The comparator defaults (See Datasheet)", 3 VRNG (in) "Sense Voltage Limit Set. The voltage at this pin sets the nominal sense voltage at maximum output current and can be set from 0.5V to 2V by a resistive divider from INTVCC. The nominal sense voltage defaults to 95mV when (See Datasheet)", 4 PGOOD (oc) "Power Good Output. Open-drain logic output that is pulled to ground when the output voltage is not between +/-10% of the regulation point. The output voltage must be out of regulation for at least 120us before the power good (See Datasheet)", 5 MODE/SYNC (in) "Pulse Skip Mode Enable/Sync Pin. This multifunction pin provides pulse skip mode enable/ disable control and an external clock input to the phase detector. Pulling this pin below 0.8V or to an external logic-level (See Datasheet)", 6 ITH "Error Amplifier Compensation Point and Current Control Threshold. The current comparator threshold increases with this control voltage. The voltage ranges from 0V to 2.6V with 1.2V corresponding to zero sense voltage (zero (See Datasheet)", 7 VFB (in) "Feedback Input. Connect VFB through a resistor divider network to VOUT to set the output voltage.", 8 PLL/LPF (in) "The phase-locked loop’s lowpass filter is tied to this pin. The voltage at this pin defaults to 1.2V when the IC is not synchronized with an external clock at the MODE/SYNC pin.", 9 SS/TRACK (in) "Soft-Start/Tracking Input. For soft-start, a capacitor to ground at this pin sets the ramp rate of the output voltage (approximately 0.6s/uF). For coincident or ratiometric tracking, connect this pin to a resistive divider (See Datasheet)", 12 ~{SHDN} (in) "Shutdown Pin. Pulling this pin below 1.5V will shut down the LTC3810-5, turn off both of the external MOSFET switches and reduce the quiescent supply current to 240uA.", 13 UVIN (in) "UVLO Input. This pin is input to the internal UVLO and is compared to an internal 0.8V reference. An external resistor divider is connected to this pin and the input supply to program the undervoltage lockout voltage. When (See Datasheet)", 14 NDRV (out) "Drive Output for External Pass Device of the Linear Regulator for INTVCC. Connect to the gate of an external NMOS pass device and a pull-up resistor to the input voltage VIN.", 15 EXTVCC (power) "External Driver Supply Voltage. When this voltage exceeds 4.7V, an internal switch connects this pin to INTVCC through an LDO and turns off the exter nal MOSFET connected to NDRV, so that controller and gate drive are drawn (See Datasheet)", 16 INTVCC (power) "Main Supply Pin. All internal circuits except the output drivers are powered from this pin. INTVCC should be bypassed to ground (Pin 10) with at least a 0.1uF capacitor in close proximity to the LTC3810-5.", 17 DRVCC (power) "Driver Supply Pin. DRVCC supplies power to the BG output driver. This pin is normally connected to INTVCC. DRVCC should be bypassed to BGRTN (Pin 20) with a low ESR (X5R or better) 1uF-10uF capacitor in close proximity to (See Datasheet)", 18 BG (out) "Bottom Gate Drive. The BG pin drives the gate of the bottom N-channel synchronous switch MOSFET. This pin swings from BGRTN to DRVCC", 19 BGRTN "Bottom Gate Return. This pin connects to the source of the pulldown MOSFET in the BG driver and is normally connected to ground. Connecting a negative supply to this pin allows the synchronous MOSFET’s gate to be pulle(See Datasheet)", 20 SENSE- (in) "Current Sense Comparator Input. The (+) input to the current comparator is normally connected to SW unless using a sense resistor. The (-) input is used to accurately kelvin sense the bottom side of the sense resistor or (See Datasheet)", 24 SENSE+ (in) "Current Sense Comparator Input. The (+) input to the current comparator is normally connected to SW unless using a sense resistor. The (-) input is used to accurately kelvin sense the bottom side of the sense resistor or (See Datasheet)", 25 SW "Switch Node Connection to Inductor and Bootstrap Capacitor. The voltage swing at this pin is -0.7V (a Schottky diode (external) voltage drop) to VIN.", 26 TG (out) "Top Gate Drive. The TG pin drives the gate of the top N-channel synchronous switch MOSFET. The TG driver draws power from the BOOST pin and returns to the SW pin, providing true floating drive to the top MOSFET.", 27 BOOST "Top Gate Driver Supply. The BOOST pin supplies power to the floating TG driver. BOOST should be bypassed to SW with a low ESR (X5R or better) 0.1uF capacitor. An additional fast recovery Schottky diode from DRVCC to the (See Datasheet)", 31 ION (in) "On-Time Current Input. Tie a resistor from VIN to this pin to set the one-shot timer current and thereby set the switching frequency.", 33 EP (power) "Signal Ground. All smallsignal components should connect to this ground and eventually connect to PGND at one point."
part B pins: 1 NC, 10 NC, 11 NC, 21 NC, 22 NC, 23 NC, 28 NC, 29 NC, 30 NC, 32 NC